# Altium integrated library ST RF and IF Demodulator.IntLib: 4 symbols
Pins are listed as number, name and electrical type; pins without a type are passive.

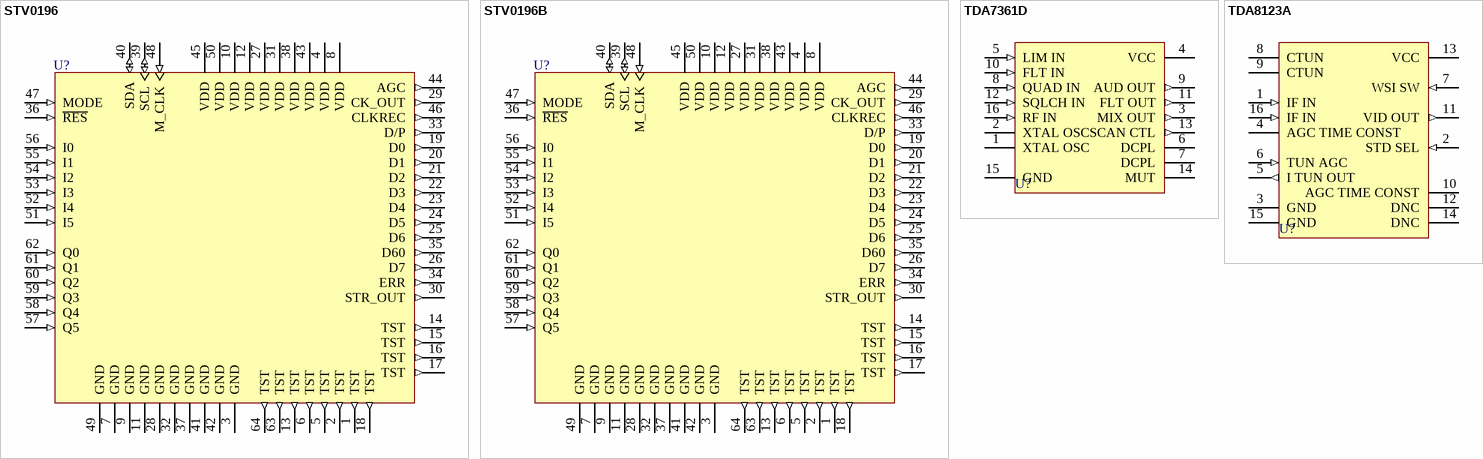
[diagram p0: symbols STV0196 to TDA8123A]

## STV0196
designator U?
QPSK/BPSK Demodulator and FEC IC; Published: 24-Aug-2001; LatestRevisionDate: 17-Jul-2002; LatestRevisionNote: Re-released for DXP Platform.; DatasheetDocument: Sep-1996; PackageDocument: Jul-2001; PackageReference: PQFP64; Publisher: Altium Limited
footprint PQFP64 (QFP, Plastic; 64 Leads; Body 14 x 14 mm; Pitch 0.8 mm)
pins: 1 TST (out), 2 TST (out), 3 GND (power), 4 VDD (power), 5 TST (out), 6 TST (out), 7 GND (power), 8 VDD (power), 9 GND (power), 10 VDD (power), 11 GND (power), 12 VDD (power), 13 TST (out), 14 TST (out), 15 TST (out), 16 TST (out), 17 TST (out), 18 TST (out), 19 D0 (out), 20 D1 (out), 21 D2 (out), 22 D3 (out), 23 D4 (out), 24 D5 (out), 25 D6 (out), 26 D7 (out), 27 VDD (power), 28 GND (power), 29 CK_OUT (out), 30 STR_OUT (out), 31 VDD (power), 32 GND (power), 33 D/P (out), 34 ERR (out), 35 D60 (out), 36 ~{RES} (in), 37 GND (power), 38 VDD (power), 39 SCL (io), 40 SDA (io), 41 GND (power), 42 GND (power), 43 VDD (power), 44 AGC (out), 45 VDD (power), 46 CLKREC (out), 47 MODE (in), 48 M_CLK (in), 49 GND (power), 50 VDD (power), 51 I5 (in), 52 I4 (in), 53 I3 (in), 54 I2 (in), 55 I1 (in), 56 I0 (in), 57 Q5 (in), 58 Q4 (in), 59 Q3 (in), 60 Q2 (in), 61 Q1 (in), 62 Q0 (in), 63 TST (out), 64 TST (out)

## STV0196B
designator U?
QPSK/BPSK Demodulator and FEC IC; Published: 24-Aug-2001; LatestRevisionDate: 17-Jul-2002; LatestRevisionNote: Re-released for DXP Platform.; DatasheetDocument: Sep-1996; PackageDocument: Jul-2001; PackageReference: PQFP64; Publisher: Altium Limited
footprint PQFP64 (QFP, Plastic; 64 Leads; Body 14 x 14 mm; Pitch 0.8 mm)
pins: 1 TST (out), 2 TST (out), 3 GND (power), 4 VDD (power), 5 TST (out), 6 TST (out), 7 GND (power), 8 VDD (power), 9 GND (power), 10 VDD (power), 11 GND (power), 12 VDD (power), 13 TST (out), 14 TST (out), 15 TST (out), 16 TST (out), 17 TST (out), 18 TST (out), 19 D0 (out), 20 D1 (out), 21 D2 (out), 22 D3 (out), 23 D4 (out), 24 D5 (out), 25 D6 (out), 26 D7 (out), 27 VDD (power), 28 GND (power), 29 CK_OUT (out), 30 STR_OUT (out), 31 VDD (power), 32 GND (power), 33 D/P (out), 34 ERR (out), 35 D60 (out), 36 ~{RES} (in), 37 GND (power), 38 VDD (power), 39 SCL (io), 40 SDA (io), 41 GND (power), 42 GND (power), 43 VDD (power), 44 AGC (out), 45 VDD (power), 46 CLKREC (out), 47 MODE (in), 48 M_CLK (in), 49 GND (power), 50 VDD (power), 51 I5 (in), 52 I4 (in), 53 I3 (in), 54 I2 (in), 55 I1 (in), 56 I0 (in), 57 Q5 (in), 58 Q4 (in), 59 Q3 (in), 60 Q2 (in), 61 Q1 (in), 62 Q0 (in), 63 TST (out), 64 TST (out)

## TDA7361D
designator U?
Low Voltage NBFM IF System; Published: 24-Aug-2001; LatestRevisionDate: 17-Jul-2002; LatestRevisionNote: Re-released for DXP Platform.; DatasheetDocument: Jun-1993; PackageDocument: May-1998; PackageReference: SO16; Publisher: Altium Limited
footprint SO16 (Small Outline; 16 Leads; Body Width 3.9 mm; Pitch 1.27 mm)
pins: 1 XTAL OSC, 2 XTAL OSC, 3 MIX OUT (out), 4 VCC (power), 5 LIM IN (in), 6 DCPL, 7 DCPL, 8 QUAD IN (in), 9 AUD OUT (out), 10 FLT IN (in), 11 FLT OUT (out), 12 SQLCH IN (in), 13 SCAN CTL (out), 14 MUT, 15 GND (power), 16 RF IN (in)

## TDA8123A
designator U?
Multistandard Video IF System; Note: Do Not Connect (DNC) pins 12 and 14.; Published: 24-Aug-2001; LatestRevisionDate: 17-Jul-2002; LatestRevisionNote: Re-released for DXP Platform.; DatasheetDocument: Dec-1992; PackageDocument: Apr-1996; PackageReference: DIP16; Publisher: Altium Limited
footprint DIP16 (DIP; 16 Leads; Row Spacing 7.62 mm; Pitch 2.54 mm)
pins: 1 IF IN (in), 2 STD SEL (in), 3 GND (power), 4 AGC TIME CONST, 5 I TUN OUT (out), 6 TUN AGC (in), 7 WSI SW (in), 8 CTUN, 9 CTUN, 10 AGC TIME CONST, 11 VID OUT (out), 12 DNC, 13 VCC (power), 14 DNC, 15 GND (power), 16 IF IN (in)